# EAGLE library part K-USB-OTG- (library elpp-smt-v1.1)
USB B connectors, shielded
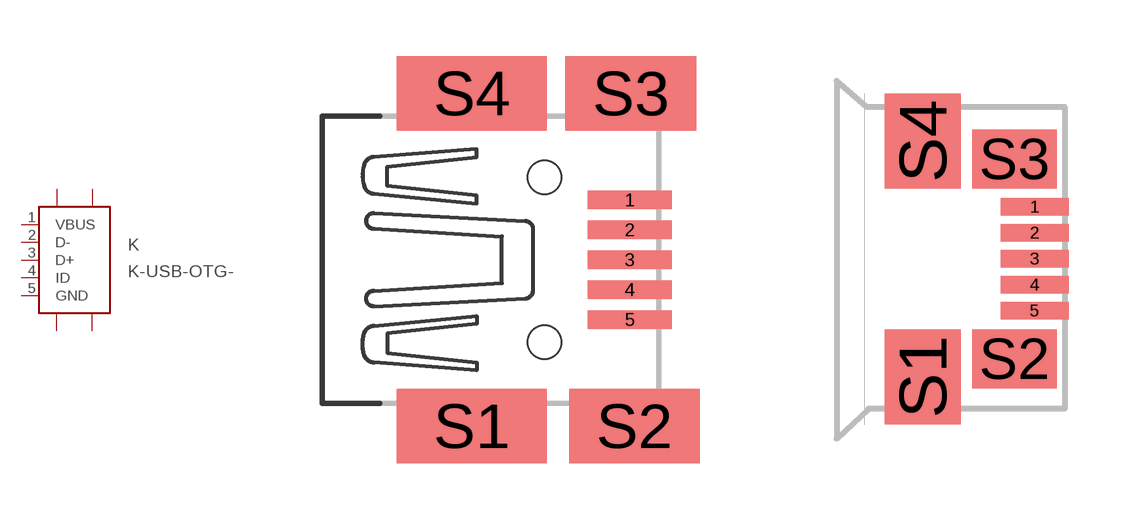
[diagram p3: symbol with the pads of ELPP-USB-B-MINI; footprints ELPP-USB-B-MINI, ELPP-USB-B-MICRO-BOTTOM]

Designator prefix K

## K-USB-OTG-B-MINI (FARNELL: 1125348; RS: 6661099)  [ELPP-USB-B-MINI]
1  VBUS  pas
2  D-  pas
3  D+  pas
4  ID  pas
5  GND  pas
S1  S1  pas
S2  S2  pas
S3  S3  pas
S4  S4  pas

## K-USB-OTG-B-MICRO (FARNELL: 1568026; RS: 7025475)  [ELPP-USB-B-MICRO-BOTTOM]
Pads as for ELPP-USB-B-MINI

## Footprint ELPP-USB-B-MINI (pad centres in mm)
USB-B mini On-The-Go (OTG) receptacle
smd 2.25 x 0.5: 1 2.275,1.6; 2 2.275,0.8; 3 2.275,0; 4 2.275,-0.8; 5 2.275,-1.6
smd 4 x 2: S1 -1.95,-4.45; S4 -1.95,4.45
smd 3.5 x 2: S2 2.4,-4.45; S3 2.3,4.45
hole 0.9 at 0,2.2
hole 0.9 at 0,-2.2

## Footprint ELPP-USB-B-MICRO-BOTTOM (pad centres in mm)
USB-B micro receptacle, botom mount.
smd 1.7 x 0.44: 1 2.8,1.3; 2 2.8,0.65; 3 2.8,0; 4 2.8,-0.65; 5 2.8,-1.3
smd 1.9 x 2.375: S1 0,-2.95; S4 0,2.95
smd 2.1 x 1.475: S2 2.3,-2.5; S3 2.3,2.5